# EAGLE library part 1.2-INCH (library FansElectronics-7Segmen)
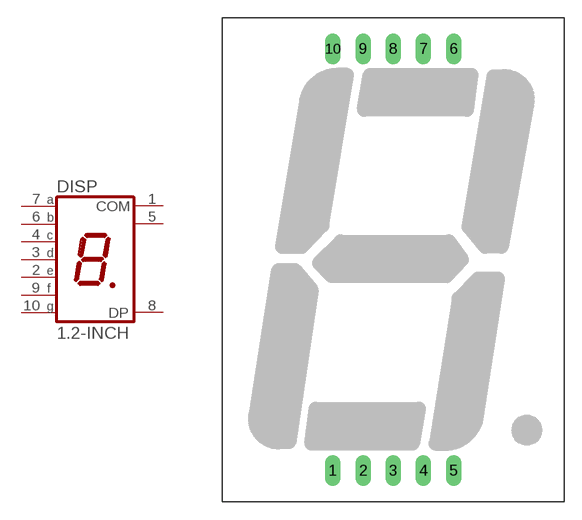
[diagram p5: symbol with the pads of 1.2"; footprint 1.2"]

Designator prefix DISP

## 1.2-INCH  [1.2"]
1  COM  pas
2  E  pas
3  D  pas
4  C  pas
5  COM  pas
6  B  pas
7  A  pas
8  DP  pas
9  F  pas
10  G  pas

## Footprint 1.2" (pad centres in mm)
drill 0.8 long: 1 -6.35,-17.78; 2 -3.81,-17.78; 3 -1.27,-17.78; 4 1.27,-17.78; 5 3.81,-17.78; 6 3.81,17.78; 7 1.27,17.78; 8 -1.27,17.78; 9 -3.81,17.78; 10 -6.35,17.78